# Altium schematic symbol library 39301040.SchLib: 1 symbol
Pins are listed as number, name and electrical type; pins without a type are passive.

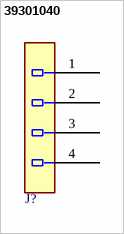
[diagram p0: symbol 39301040]

## 39301040
designator J?  (value not drawn)
4 Circuit ATX
footprint 39301040
pins: 1, 2, 3, 4